# Altium schematic symbol library Schlib1.SchLib: 6 symbols
Pins are listed as number, name and electrical type; pins without a type are passive.

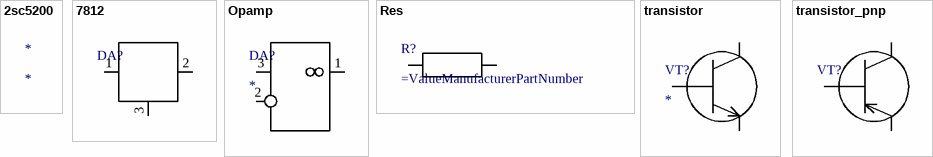
[diagram p0: symbols 2sc5200 to transistor_pnp]

## 2sc5200
designator *

## 7812
designator DA?  (value not drawn)
footprint TO220; pin to pad 2>3 3>2
pins: 1, 2, 3

## Opamp
designator DA?
footprint DIP16 - duplicate
footprint 14-SOIC (pitch 1.27 mm)
pins: 1, 2, 3

## Res
designator R?
footprint Res0.5W
footprint Res2W - duplicate
pins: 1, 2

## transistor
designator VT?
footprint TO247 (3-Lead Plastic TO-247); pin to pad 2>3 3>2
pins: 1, 2, 3

## transistor_pnp
designator VT?  (value not drawn)
pins: 1, 2, 3